# Altium footprint library STM32G031F6P6.PcbLib: 1 footprints
Each footprint in its own frame and in the unit in brackets; x right, y up, seen from the top. Pads: shape width x height; smd on the part's side, far side on the other; paste and mask are expansions set on the pad; w line width, h text height; cw(c..) or ccw(c..) is an arc to the next point about the centre after c.
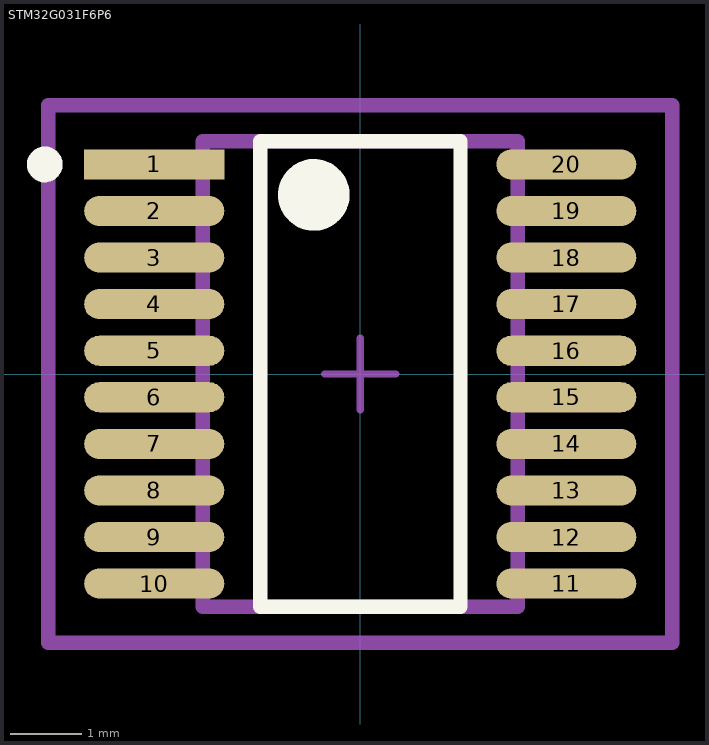
[diagram p0: the footprint, top view; thin cyan lines are the x and y axes]

## STM32G031F6P6 [mm]
pads (20):
  rect 1.955x0.421 smd paste+0 mask+0: 1(-2.875,2.925)
  rrect100% 1.955x0.421 smd paste+0 mask+0: 2(-2.875,2.275) 3(-2.875,1.625) 4(-2.875,0.975) 5(-2.875,0.325) 6(-2.875,-0.325) 7(-2.875,-0.975) 8(-2.875,-1.625) 9(-2.875,-2.275) 10(-2.875,-2.925) 11(2.875,-2.925) 12(2.875,-2.275) 13(2.875,-1.625) 14(2.875,-0.975) 15(2.875,-0.325) 16(2.875,0.325) 17(2.875,0.975) 18(2.875,1.625) 19(2.875,2.275) 20(2.875,2.925)
Top Overlay:
  circle w0.25: c-4.403,2.925 r0.125
  circle w0.5: c-0.648,2.5 r0.25
  lines w0.2: -1.398,-3.25 -1.398,3.25 1.398,3.25 1.398,-3.25 -1.398,-3.25
Top Assembly:
  lines w0.2: -4.353,-3.75 -4.353,3.75 4.353,3.75 4.353,-3.75 -4.353,-3.75
  text ".Designator" at 0,0.188 h1
Top 3D Body:
  lines w0.2: -2.2,-3.25 -2.2,3.25 2.2,3.25 2.2,-3.25 -2.2,-3.25
Top Courtyard:
  lines w0.2: -4.353,-3.75 -4.353,3.75 4.353,3.75 4.353,-3.75 -4.353,-3.75
Top Component Center:
  lines w0.1: -0.5,0 0.5,0 ; 0,-0.5 0,0.5
3D body "IC_STMicroelectronics_STM32G030F6P6_eec.STEP": height 0.25, standoff 0, extent -4.353,-3.75 4.353,3.75